# Altium schematic symbol library 2020-03-06_18-51-14.SchLib: 1 symbol
Pins are listed as number, name and electrical type; pins without a type are passive.

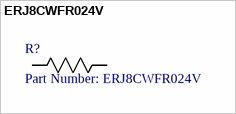
[diagram p0: symbol ERJ8CWFR024V]

## ERJ8CWFR024V
designator R?, comment Part Number: ERJ8CWFR024V
Resistor 1206 SMD; Vendor: Panasonic; Built_By: EMA_Cory; Manufacturer_Part_Number: ERJ8CWFR024V; Copyright: Copyright (C) 2018 Accelerated Designs. All rights reserved; RefDes: RefDes; Type: DEV; Value: Value
footprint RES_ERJ8CW_HIGH
pins: 1, 2